# EAGLE library part LED-24XRGB-RING (library Modules)
24 LEDs RGB Ring based on WS2812B More details about controlling WS2812B RGB LEDs are available here: https://learn.sparkfun.com/tutorials/ws2812-breakout-hookup-guide Click here to find device on ebay.com <http://www.ebay.com/sch/ws2812+24+bit+ring>
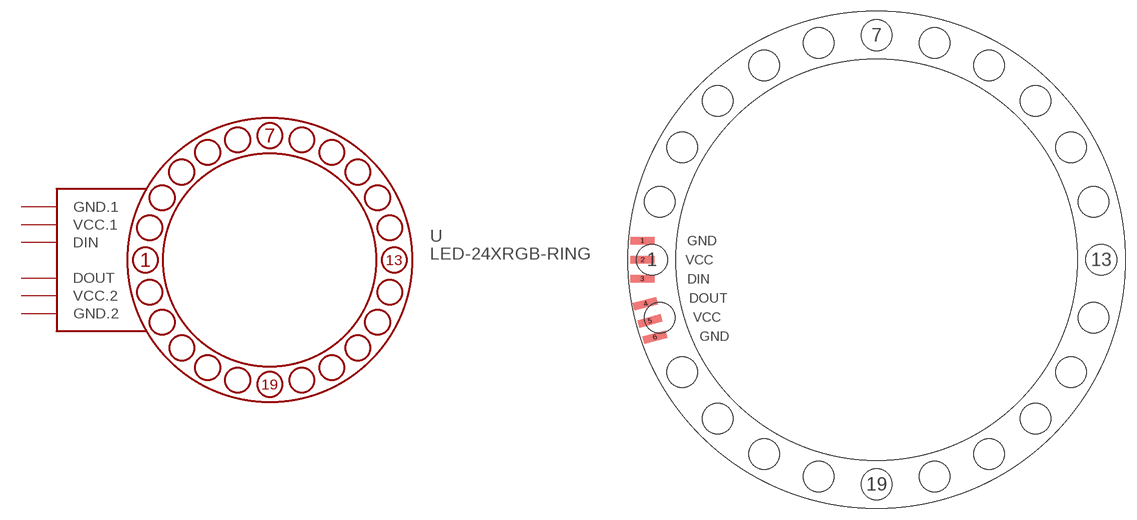
[diagram p19: symbol with the pads of LED-24XRGB-RING; footprint LED-24XRGB-RING]

Designator prefix -

## LED-24XRGB-RING  [LED-24XRGB-RING]
1  GND.1  pwr
2  VCC.1  pwr
3  DIN  in
4  DOUT  in
5  VCC.2  pwr
6  GND.2  pwr

## Footprint LED-24XRGB-RING (pad centres in mm)
24 LEDs RGB Ring based on WS2812B
smd 3.175 x 1.016: 1 -31.115,2.54; 2 -31.115,0; 3 -31.115,-2.54
smd 3.175 x 1.016 rotated 15: 4 -30.734,-5.842; 5 -30.099,-8.128; 6 -29.464,-10.287